# Altium schematic symbol library GOSTOpto.SchLib: 3 symbols
Pins are listed as number, name and electrical type; pins without a type are passive.

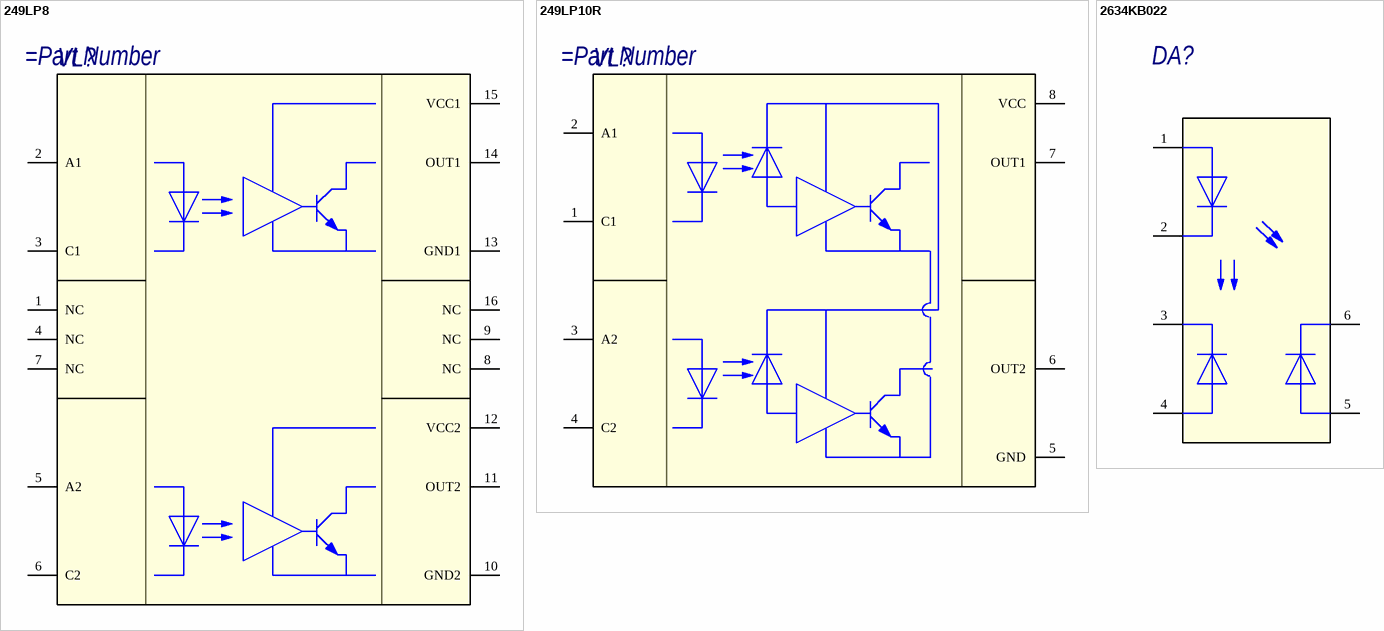
[diagram p0: symbols 249LP8 to 2634KB022]

## 249LP8
designator VL?
Двухканальный сверхбыстродействующий инвертор с открытым коллектором
pins: 1 NC, 2 A1, 3 C1, 4 NC, 5 A2, 6 C2, 7 NC, 8 NC, 9 NC, 10 GND2, 11 OUT2, 12 VCC2, 13 GND1, 14 OUT1, 15 VCC1, 16 NC

## 249LP10R
designator VL?
Сдвоенный быстродействующий герметичный оптрон для изделий специального назначения
pins: 1 C1, 2 A1, 3 A2, 4 C2, 5 GND, 6 OUT2, 7 OUT1, 8 VCC

## 2634KB022
designator DA?
Линейная дифференциальная герметичная диодная / оптопара
pins: 1, 2, 3, 4, 5, 6